# EAGLE library part RPI3 (library RPI3_Sosnus_lbr)
Raspberry PI 3 Library Created by Stanislaw "Sosnus" Pulawski @Stapulawski If Yoy found any mistake, please write about it at www.stapulawski.wordpress.com
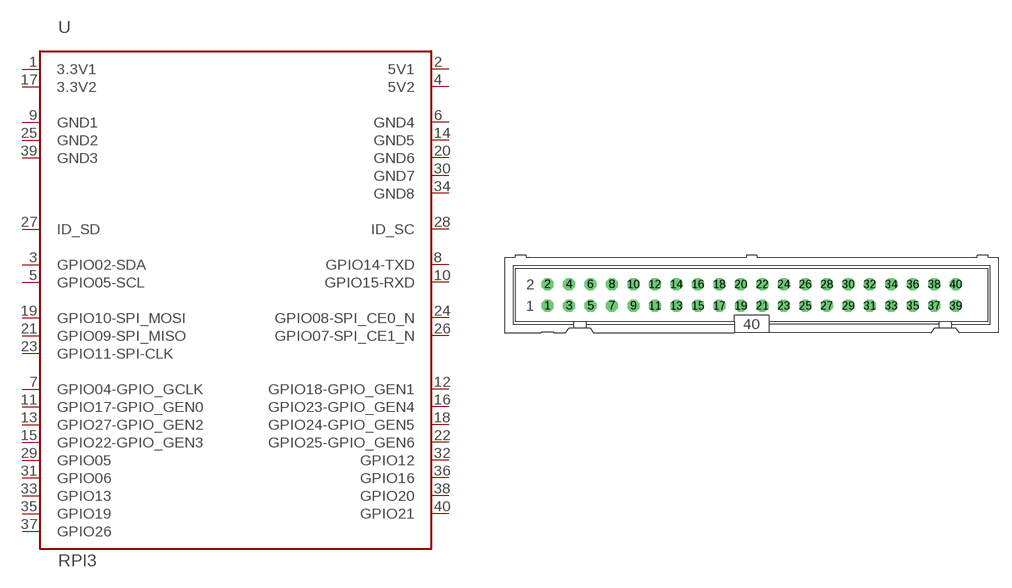
[diagram p0: symbol with the pads of IDC40; footprint IDC40]

Designator prefix -

## RPI3  [IDC40]
1  3.3V1
2  5V1
3  GPIO02-SDA
4  5V2
5  GPIO05-SCL
6  GND4
7  GPIO04-GPIO_GCLK
8  GPIO14-TXD
9  GND1
10  GPIO15-RXD
11  GPIO17-GPIO_GEN0
12  GPIO18-GPIO_GEN1
13  GPIO27-GPIO_GEN2
14  GND5
15  GPIO22-GPIO_GEN3
16  GPIO23-GPIO_GEN4
17  3.3V2
18  GPIO24-GPIO_GEN5
19  GPIO10-SPI_MOSI
20  GND6
21  GPIO09-SPI_MISO
22  GPIO25-GPIO_GEN6
23  GPIO11-SPI-CLK
24  GPIO08-SPI_CE0_N
25  GND2
26  GPIO07-SPI_CE1_N
27  ID_SD
28  ID_SC
29  GPIO05
30  GND7
31  GPIO06
32  GPIO12
33  GPIO13
34  GND8
35  GPIO19
36  GPIO16
37  GPIO26
38  GPIO20
39  GND3
40  GPIO21

## Footprint IDC40 (pad centres in mm)
drill 0.914 octagon: 1 -25.4,0; 2 -25.4,2.54; 3 -22.86,0; 4 -22.86,2.54; 5 -20.32,0; 6 -20.32,2.54; 7 -17.78,0; 8 -17.78,2.54; 9 -15.24,0; 10 -15.24,2.54; 11 -12.7,0; 12 -12.7,2.54; 13 -10.16,0; 14 -10.16,2.54; 15 -7.62,0; 16 -7.62,2.54; 17 -5.08,0; 18 -5.08,2.54; 19 -2.54,0; 20 -2.54,2.54; 21 0,0; 22 0,2.54; 23 2.54,0; 24 2.54,2.54; 25 5.08,0; 26 5.08,2.54; 27 7.62,0; 28 7.62,2.54; 29 10.16,0; 30 10.16,2.54; 31 12.7,0; 32 12.7,2.54; 33 15.24,0; 34 15.24,2.54; 35 17.78,0; 36 17.78,2.54; 37 20.32,0; 38 20.32,2.54; 39 22.86,0; 40 22.86,2.54